# EAGLE library part BQ25570RGRR (library BQ25570RGRR)
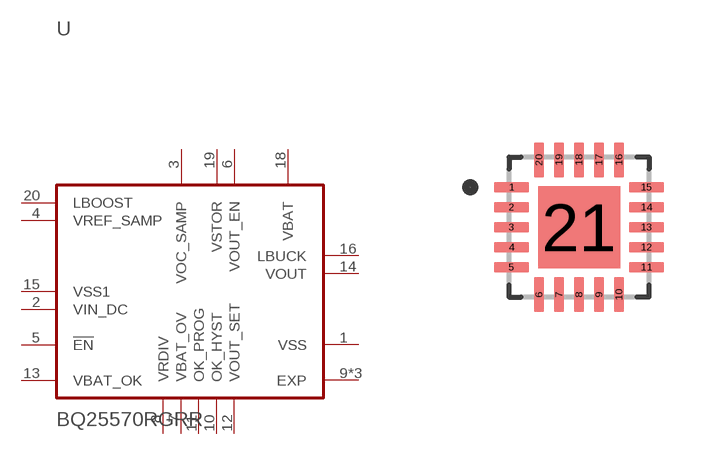
[diagram p0: symbol with the pads of QFN50P350X350X100-21N; footprint QFN50P350X350X100-21N]

Designator prefix U

## BQ25570RGRR (DESCRIPTION: Ultra Low power Harvester power Management IC with boost charger, and Nanopower Buck Converter 20-VQFN -40 to 125; DIGI-KEY_PART_NUMBER: 296-39934-1-ND; MF: Texas Instruments; MP: BQ25570RGRR; PACKAGE: VQFN-20 Texas Instruments; PURCHASE-URL: https://pricing.snapeda.com/search/part/BQ25570RGRR/?ref=eda)  [QFN50P350X350X100-21N]
1  VSS  pwr
2  VIN_DC  in
3  VOC_SAMP  in
4  VREF_SAMP  in
5  !EN  in
6  VOUT_EN  in
7  VBAT_OV  in
8  VRDIV  out
9  EXP  pwr
10  OK_HYST  in
11  OK_PROG  in
12  VOUT_SET  in
13  VBAT_OK  out
14  VOUT  out
15  VSS1  pwr
16  LBUCK
17  EXP  pwr
18  VBAT  pwr
19  VSTOR  out
20  LBOOST
21  EXP  pwr

## Footprint QFN50P350X350X100-21N (pad centres in mm)
smd 0.88 x 0.26: 1 -1.685,1; 2 -1.685,0.5; 3 -1.685,0; 4 -1.685,-0.5; 5 -1.685,-1; 11 1.685,-1; 12 1.685,-0.5; 13 1.685,0; 14 1.685,0.5; 15 1.685,1
smd 0.26 x 0.88: 6 -1,-1.685; 7 -0.5,-1.685; 8 0,-1.685; 9 0.5,-1.685; 10 1,-1.685; 16 1,1.685; 17 0.5,1.685; 18 0,1.685; 19 -0.5,1.685; 20 -1,1.685
smd 2.05 x 2.05: 21 0,0